# EAGLE library part 96BOARDS_LOW_SPEED (library GH_SparkFun-Boards)
96 BOARDS SPEC LOW SPEED CONNECTOR 2x20, 40-pin, header for low speed expansion. Has UARTS, I2C, I2S, SPI and GPIO. * 2mm-pitch variant interfaces directly with the header on a 96-boards-compliant board. * 0.1-pitch version is for applications where the header has been translated to the larger, more available 0.1" 2x20 connector. For more details, see the spec at https://www.96boards.org
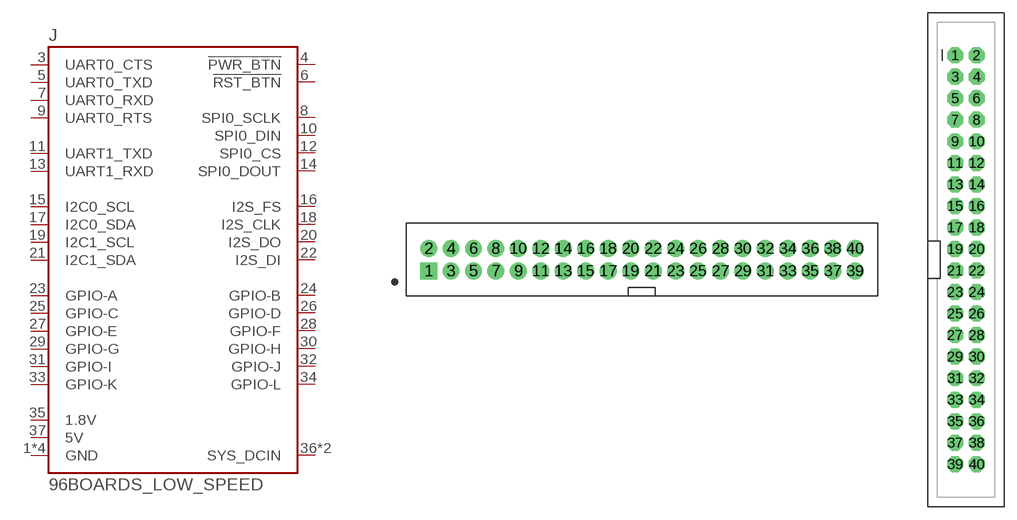
[diagram p17: symbol with the pads of 2X20-2MM-SHROUDED-PTH; footprints 2X20-2MM-SHROUDED-PTH, 2X20-SHROUDED]

Designator prefix J

## 96BOARDS_LOW_SPEEDPTH  [2X20-2MM-SHROUDED-PTH]
1  GND  pwr
2  GND  pwr
3  UART0_CTS  out
4  !PWR_BTN
5  UART0_TXD  out
6  !RST_BTN
7  UART0_RXD  in
8  SPI0_SCLK  out
9  UART0_RTS  in
10  SPI0_DIN  in
11  UART1_TXD  out
12  SPI0_CS  out
13  UART1_RXD  in
14  SPI0_DOUT  out
15  I2C0_SCL
16  I2S_FS
17  I2C0_SDA
18  I2S_CLK
19  I2C1_SCL
20  I2S_DO
21  I2C1_SDA
22  I2S_DI
23  GPIO-A
24  GPIO-B
25  GPIO-C
26  GPIO-D
27  GPIO-E
28  GPIO-F
29  GPIO-G
30  GPIO-H
31  GPIO-I
32  GPIO-J
33  GPIO-K
34  GPIO-L
35  1.8V  pwr
36  SYS_DCIN  pwr
37  5V  pwr
38  SYS_DCIN  pwr
39  GND  pwr
40  GND  pwr

## 96BOARDS_LOW_SPEED0.1"-PTH  [2X20-SHROUDED]
Pads as for 2X20-2MM-SHROUDED-PTH

## 96BOARDS_LOW_SPEEDSMT-F (PROD_ID: CONN-12977)  [2X20-2MM-SMT-F]
Pads as for 2X20-2MM-SHROUDED-PTH

## 96BOARDS_LOW_SPEEDSMT-M-BOTTOM (PROD_ID: CONN-12975)  [2X20-2MM-SHROUDED-SMT-BOTTOM-M]
Pads as for 2X20-2MM-SHROUDED-PTH

## 96BOARDS_LOW_SPEED  [2X20-2MM-SHROUDED-RA-PTH]
Pads as for 2X20-2MM-SHROUDED-PTH

## 96BOARDS_LOW_SPEEDSMT-M-TOP (PROD_ID: CONN-12975)  [2X20-2MM-SHROUDED-SMT-TOP-M]
Pads as for 2X20-2MM-SHROUDED-PTH

## 96BOARDS_LOW_SPEEDRIBBON-COMPATIBLE  [2X20-2MM-SHROUDED-SMT-RIBBON-M]
Pads as for 2X20-2MM-SHROUDED-PTH

## Footprint 2X20-2MM-SHROUDED-PTH (pad centres in mm)
drill 1 square: 1 -19,-1
drill 1: 2 -19,1; 3 -17,-1; 4 -17,1; 5 -15,-1; 6 -15,1; 7 -13,-1; 8 -13,1; 9 -11,-1; 10 -11,1; 11 -9,-1; 12 -9,1; 13 -7,-1; 14 -7,1; 15 -5,-1; 16 -5,1; 17 -3,-1; 18 -3,1; 19 -1,-1; 20 -1,1; 21 1,-1; 22 1,1; 23 3,-1; 24 3,1; 25 5,-1; 26 5,1; 27 7,-1; 28 7,1; 29 9,-1; 30 9,1; 31 11,-1; 32 11,1; 33 13,-1; 34 13,1; 35 15,-1; 36 15,1; 37 17,-1; 38 17,1; 39 19,-1; 40 19,1

## Footprint 2X20-SHROUDED (pad centres in mm)
drill 1.016 pad 1.88 octagon: 1 -1.27,24.13; 2 1.27,24.13; 3 -1.27,21.59; 4 1.27,21.59; 5 -1.27,19.05; 6 1.27,19.05; 7 -1.27,16.51; 8 1.27,16.51; 9 -1.27,13.97; 10 1.27,13.97; 11 -1.27,11.43; 12 1.27,11.43; 13 -1.27,8.89; 14 1.27,8.89; 15 -1.27,6.35; 16 1.27,6.35; 17 -1.27,3.81; 18 1.27,3.81; 19 -1.27,1.27; 20 1.27,1.27; 21 -1.27,-1.27; 22 1.27,-1.27; 23 -1.27,-3.81; 24 1.27,-3.81; 25 -1.27,-6.35; 26 1.27,-6.35; 27 -1.27,-8.89; 28 1.27,-8.89; 29 -1.27,-11.43; 30 1.27,-11.43; 31 -1.27,-13.97; 32 1.27,-13.97; 33 -1.27,-16.51; 34 1.27,-16.51; 35 -1.27,-19.05; 36 1.27,-19.05; 37 -1.27,-21.59; 38 1.27,-21.59; 39 -1.27,-24.13; 40 1.27,-24.13

## Footprint 2X20-2MM-SMT-F (pad centres in mm)
E.G. Molex 87832-4072
smd 0.8 x 1.5: 1 -19,-2.75; 2 -19,2.75; 3 -17,-2.75; 4 -17,2.75; 5 -15,-2.75; 6 -15,2.75; 7 -13,-2.75; 8 -13,2.75; 9 -11,-2.75; 10 -11,2.75; 11 -9,-2.75; 12 -9,2.75; 13 -7,-2.75; 14 -7,2.75; 15 -5,-2.75; 16 -5,2.75; 17 -3,-2.75; 18 -3,2.75; 19 -1,-2.75; 20 -1,2.75; 21 1,-2.75; 22 1,2.75; 23 3,-2.75; 24 3,2.75; 25 5,-2.75; 26 5,2.75; 27 7,-2.75; 28 7,2.75; 29 9,-2.75; 30 9,2.75; 31 11,-2.75; 32 11,2.75; 33 13,-2.75; 34 13,2.75; 35 15,-2.75; 36 15,2.75; 37 17,-2.75; 38 17,2.75; 39 19,-2.75; 40 19,2.75
hole 0.8 at -20,0
hole 0.8 at 20,0

## Footprint 2X20-2MM-SHROUDED-SMT-BOTTOM-M (pad centres in mm)
Warning! this is for the BOTTOM of a 96-boards Layout Pin 1 is not in the right place for ordinary usage!! Candidate parts: Molex 87832-4072 - shrouded Molex 87759-4050 - unshrouded
smd 1 x 2.75: 1 19,-2.125; 2 19,2.125; 3 17,-2.125; 4 17,2.125; 5 15,-2.125; 6 15,2.125; 7 13,-2.125; 8 13,2.125; 9 11,-2.125; 10 11,2.125; 11 9,-2.125; 12 9,2.125; 13 7,-2.125; 14 7,2.125; 15 5,-2.125; 16 5,2.125; 17 3,-2.125; 18 3,2.125; 19 1,-2.125; 20 1,2.125; 21 -1,-2.125; 22 -1,2.125; 23 -3,-2.125; 24 -3,2.125; 25 -5,-2.125; 26 -5,2.125; 27 -7,-2.125; 28 -7,2.125; 29 -9,-2.125; 30 -9,2.125; 31 -11,-2.125; 32 -11,2.125; 33 -13,-2.125; 34 -13,2.125; 35 -15,-2.125; 36 -15,2.125; 37 -17,-2.125; 38 -17,2.125; 39 -19,-2.125; 40 -19,2.125
hole 0.8 at -18,0
hole 0.8 at 18,0

## Footprint 2X20-2MM-SHROUDED-RA-PTH (pad centres in mm)
2x20, 2mm pitch, shrouded, right-angle header. Candidate parts: Molex 87833-4019 Samtec LTMM-120-02-F-D-RA
drill 1 pad 1.406 square: 1 19,1
drill 1 pad 1.406: 2 19,-1; 3 17,1; 4 17,-1; 5 15,1; 6 15,-1; 7 13,1; 8 13,-1; 9 11,1; 10 11,-1; 11 9,1; 12 9,-1; 13 7,1; 14 7,-1; 15 5,1; 16 5,-1; 17 3,1; 18 3,-1; 19 1,1; 20 1,-1; 21 -1,1; 22 -1,-1; 23 -3,1; 24 -3,-1; 25 -5,1; 26 -5,-1; 27 -7,1; 28 -7,-1; 29 -9,1; 30 -9,-1; 31 -11,1; 32 -11,-1; 33 -13,1; 34 -13,-1; 35 -15,1; 36 -15,-1; 37 -17,1; 38 -17,-1; 39 -19,1; 40 -19,-1

## Footprint 2X20-2MM-SHROUDED-SMT-TOP-M (pad centres in mm)
96-boards lo-spped male on top of board. This is the 96-boards lo-speed connector, rearranged to put a male header on the top of the board. Candidate parts: Molex 87832-4072 - shrouded Molex 87759-4050 - unshrouded
smd 1 x 2.75: 1 -19,-2.125; 2 -19,2.125; 3 -17,-2.125; 4 -17,2.125; 5 -15,-2.125; 6 -15,2.125; 7 -13,-2.125; 8 -13,2.125; 9 -11,-2.125; 10 -11,2.125; 11 -9,-2.125; 12 -9,2.125; 13 -7,-2.125; 14 -7,2.125; 15 -5,-2.125; 16 -5,2.125; 17 -3,-2.125; 18 -3,2.125; 19 -1,-2.125; 20 -1,2.125; 21 1,-2.125; 22 1,2.125; 23 3,-2.125; 24 3,2.125; 25 5,-2.125; 26 5,2.125; 27 7,-2.125; 28 7,2.125; 29 9,-2.125; 30 9,2.125; 31 11,-2.125; 32 11,2.125; 33 13,-2.125; 34 13,2.125; 35 15,-2.125; 36 15,2.125; 37 17,-2.125; 38 17,2.125; 39 19,-2.125; 40 19,2.125
hole 0.8 at -18,0
hole 0.8 at 18,0

## Footprint 2X20-2MM-SHROUDED-SMT-RIBBON-M (pad centres in mm)
smd 1.02 x 3.9: 1 -19,-2.35; 2 -19,2.35; 3 -17,-2.35; 4 -17,2.35; 5 -15,-2.35; 6 -15,2.35; 7 -13,-2.35; 8 -13,2.35; 9 -11,-2.35; 10 -11,2.35; 11 -9,-2.35; 12 -9,2.35; 13 -7,-2.35; 14 -7,2.35; 15 -5,-2.35; 16 -5,2.35; 17 -3,-2.35; 18 -3,2.35; 19 -1,-2.35; 20 -1,2.35; 21 1,-2.35; 22 1,2.35; 23 3,-2.35; 24 3,2.35; 25 5,-2.35; 26 5,2.35; 27 7,-2.35; 28 7,2.35; 29 9,-2.35; 30 9,2.35; 31 11,-2.35; 32 11,2.35; 33 13,-2.35; 34 13,2.35; 35 15,-2.35; 36 15,2.35; 37 17,-2.35; 38 17,2.35; 39 19,-2.35; 40 19,2.35